# Altium schematic symbol library SCH - OPAMP - TI THS4521 8 PIN.SCHLIB: 1 symbol
Pins are listed as number, name and electrical type; pins without a type are passive.

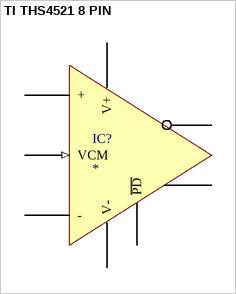
[diagram p0: symbol TI THS4521 8 PIN]

## TI THS4521 8 PIN
designator IC?
pins: 1 -, 2 VCM (in), 3 V+, 4 VOUT+, 5 VOUT-, 6 V-, 7 ~{PD}, 8 +